# Altium schematic symbol library ThroHoleCap.SchLib: 5 symbols
Pins are listed as number, name and electrical type; pins without a type are passive.

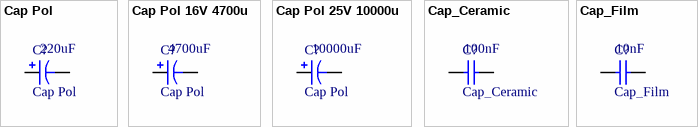
[diagram p0: symbols Cap Pol to Cap_Film]

## Cap Pol
designator C?  value 220uF
Polarized Capacitor
footprint CE/2.54 *6.35-12
footprint 25V/4.7U
footprint CE/5*10-17
pins: 1, 2
1 alternate drawing of the same symbol

## Cap Pol 16V 4700u
designator C?, comment Cap Pol  value 4700uF
Polarized Capacitor
footprint 16V/4700UF
pins: 1, 2
1 alternate drawing of the same symbol

## Cap Pol 25V 10000u
designator C?, comment Cap Pol  value 10000uF
Polarized Capacitor
footprint 35V/470uF
pins: 1, 2
1 alternate drawing of the same symbol

## Cap_Ceramic
designator C?  value 100nF
Ceramic  Capacitor
footprint CAP-2.54
pins: 1, 2

## Cap_Film
designator C?  value 10nF
Film Capacitor
footprint CAP-4.8
pins: 1, 2